# Altium footprint library 1N5819HW7.PcbLib: 3 footprints
Each footprint in its own frame and in the unit in brackets; x right, y up, seen from the top. Pads: shape width x height; smd on the part's side, far side on the other; paste and mask are expansions set on the pad; w line width, h text height; cw(c..) or ccw(c..) is an arc to the next point about the centre after c.
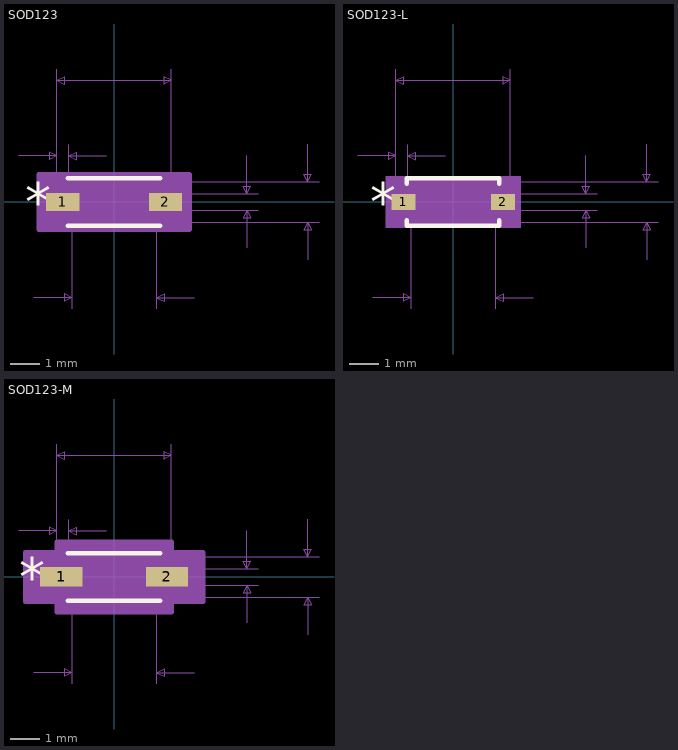
[diagram p0: the footprints below, top view; thin cyan lines are the x and y axes]

## SOD123 [mm]
pads (2):
  rect 1.111x0.601 smd: 1(-1.725,0) 2(1.725,0)
Top Overlay:
  lines w0.152: -1.552,-0.802 1.552,-0.802 ; -1.552,0.802 1.552,0.802
  text "*" at -2.979,-0.635 h1.27
Mechanical 5:
  region: 2.471,-0.865 -2.471,-0.865 -2.471,0.865 2.471,0.865
Mechanical 7:
  lines w0.025: -3.195,1.545 -1.925,1.545 ; -2.695,-3.215 -1.425,-3.215 ; -1.925,1.926 -1.925,0 -1.925,4.466 ; -1.525,0 -1.525,1.926 ; -1.425,-3.596 -1.425,0 ; -0.255,1.545 -1.525,1.545 ; 0,-0.675 6.886,-0.675 ; 0,0.675 6.886,0.675 ; 1.425,-3.596 1.425,0 ; 1.925,-0.275 4.846,-0.275 ; 1.925,0 1.925,4.466 ; 1.925,0.275 4.846,0.275 ; 2.695,-3.215 1.425,-3.215 ; 4.465,-1.545 4.465,-0.275 ; 4.465,1.545 4.465,0.275 ; 6.505,-1.945 6.505,-0.675 ; 6.505,1.945 6.505,0.675 ; -1.925,1.545 -2.179,1.672 -2.179,1.418 -1.925,1.545 ; -1.925,4.085 1.925,4.085 ; -1.925,4.085 -1.671,4.212 -1.671,3.958 -1.925,4.085 ; -1.525,1.545 -1.271,1.672 -1.271,1.418 -1.525,1.545 ; -1.425,-3.215 -1.679,-3.088 -1.679,-3.342 -1.425,-3.215 ; 1.425,-3.215 1.679,-3.088 1.679,-3.342 1.425,-3.215 ; 1.925,4.085 1.671,4.212 1.671,3.958 1.925,4.085 ; 4.465,-0.275 4.338,-0.529 4.592,-0.529 4.465,-0.275 ; 4.465,0.275 4.338,0.529 4.592,0.529 4.465,0.275 ; 6.505,-0.675 6.378,-0.929 6.632,-0.929 6.505,-0.675 ; 6.505,0.675 6.378,0.929 6.632,0.929 6.505,0.675
  text "Default Padstyle: RX43p75Y23p65D0T" at -10.795,-8.555 h1.27
  text "Alt 1 Padstyle: OX60Y90D30P" at -8.572,-10.46 h1.27
  text "Alt 2 Padstyle: OX90Y60D30P" at -8.572,-12.365 h1.27
  text "0.152in/3.85mm" at -2.222,4.593 h0.64
  text "0.016in/0.4mm" at -3.789,2.053 h0.64
  text "0.022in/0.55mm" at 4.973,-0.318 h0.64
  text "0.053in/1.35mm" at 7.013,-0.318 h0.64
  text "0.112in/2.85mm" at -2.222,-4.358 h0.64
Mechanical 13:
  lines w0.025: -1.425,-0.337 -1.087,-0.675 ; -1.425,0.337 -1.087,0.675 ; -1.925,-0.275 -1.925,0.275 -1.425,0.275 -1.425,-0.275 -1.925,-0.275 ; -1.425,-0.675 1.425,-0.675 1.425,0.675 -1.425,0.675 -1.425,-0.675 ; 1.425,-0.275 1.425,0.275 1.925,0.275 1.925,-0.275 1.425,-0.275
  text "*" at -1.488,-0.635 h1.27
Mechanical 15:
  region: -1.679,-0.937 -2.535,-0.937 -2.535,0.937 -1.679,0.937 -1.679,0.929 1.679,0.929 1.679,0.937 2.535,0.937 2.535,-0.937 1.679,-0.937 1.679,-0.929 -1.679,-0.929
  lines w0.152: -2.535,-0.937 -2.535,0.937 -1.679,0.937 -1.679,0.929 1.679,0.929 1.679,0.937 2.535,0.937 2.535,-0.937 1.679,-0.937 1.679,-0.929 -1.679,-0.929 -1.679,-0.937 -2.535,-0.937
3D body: height 0.25, standoff 0, extent 0,0 0.254,0.254

## SOD123-L [mm]
pads (2):
  rect 0.806x0.55 smd paste+0 mask+0: 1(-1.674,0) 2(1.674,0)
Top Overlay:
  lines w0.152: -1.552,-0.608 -1.552,-0.802 1.552,-0.802 1.552,-0.608 ; -1.552,0.608 -1.552,0.802 1.552,0.802 1.552,0.608
  text "*" at -2.776,-0.635 h1.27
Mechanical 5:
  region: 2.268,-0.865 -2.268,-0.865 -2.268,0.865 2.268,0.865
Mechanical 7:
  lines w0.025: -3.195,1.545 -1.925,1.545 ; -2.695,-3.215 -1.425,-3.215 ; -1.925,1.926 -1.925,0 -1.925,4.466 ; -1.525,0 -1.525,1.926 ; -1.425,-3.596 -1.425,0 ; -0.255,1.545 -1.525,1.545 ; 0,-0.675 6.886,-0.675 ; 0,0.675 6.886,0.675 ; 1.425,-3.596 1.425,0 ; 1.925,-0.275 4.846,-0.275 ; 1.925,0 1.925,4.466 ; 1.925,0.275 4.846,0.275 ; 2.695,-3.215 1.425,-3.215 ; 4.465,-1.545 4.465,-0.275 ; 4.465,1.545 4.465,0.275 ; 6.505,-1.945 6.505,-0.675 ; 6.505,1.945 6.505,0.675 ; -1.925,1.545 -2.179,1.672 -2.179,1.418 -1.925,1.545 ; -1.925,4.085 1.925,4.085 ; -1.925,4.085 -1.671,4.212 -1.671,3.958 -1.925,4.085 ; -1.525,1.545 -1.271,1.672 -1.271,1.418 -1.525,1.545 ; -1.425,-3.215 -1.679,-3.088 -1.679,-3.342 -1.425,-3.215 ; 1.425,-3.215 1.679,-3.088 1.679,-3.342 1.425,-3.215 ; 1.925,4.085 1.671,4.212 1.671,3.958 1.925,4.085 ; 4.465,-0.275 4.338,-0.529 4.592,-0.529 4.465,-0.275 ; 4.465,0.275 4.338,0.529 4.592,0.529 4.465,0.275 ; 6.505,-0.675 6.378,-0.929 6.632,-0.929 6.505,-0.675 ; 6.505,0.675 6.378,0.929 6.632,0.929 6.505,0.675
  text "Default Padstyle: RX31p75Y21p65D0T" at -10.795,-8.53 h1.27
  text "Alt 1 Padstyle: OX60Y90D30P" at -8.572,-10.435 h1.27
  text "Alt 2 Padstyle: OX90Y60D30P" at -8.572,-12.34 h1.27
  text "0.152in/3.85mm" at -2.222,4.593 h0.64
  text "0.016in/0.4mm" at -3.789,2.053 h0.64
  text "0.022in/0.55mm" at 4.973,-0.318 h0.64
  text "0.053in/1.35mm" at 7.013,-0.318 h0.64
  text "0.112in/2.85mm" at -2.222,-4.358 h0.64
Mechanical 13:
  lines w0.025: -1.425,-0.337 -1.087,-0.675 ; -1.425,0.337 -1.087,0.675 ; -1.925,-0.275 -1.925,0.275 -1.425,0.275 -1.425,-0.275 -1.925,-0.275 ; -1.425,-0.675 1.425,-0.675 1.425,0.675 -1.425,0.675 -1.425,-0.675 ; 1.425,-0.275 1.425,0.275 1.925,0.275 1.925,-0.275 1.425,-0.275
  text "*" at -1.488,-0.635 h1.27
Mechanical 15:
  region: -1.527,-0.377 -2.179,-0.377 -2.179,0.377 -1.527,0.377 -1.527,0.777 1.527,0.777 1.527,0.377 2.179,0.377 2.179,-0.377 1.527,-0.377 1.527,-0.777 -1.527,-0.777
  lines w0.152: -2.179,-0.377 -2.179,0.377 -1.527,0.377 -1.527,0.777 1.527,0.777 1.527,0.377 2.179,0.377 2.179,-0.377 1.527,-0.377 1.527,-0.777 -1.527,-0.777 -1.527,-0.377 -2.179,-0.377
3D body: height 0.25, standoff 0, extent 0,0 0.254,0.254

## SOD123-M [mm]
pads (2):
  rect 1.416x0.652 smd paste+0 mask+0: 1(-1.776,0) 2(1.776,0)
Top Overlay:
  lines w0.152: -1.552,-0.802 1.552,-0.802 ; -1.552,0.802 1.552,0.802
  text "*" at -3.182,-0.635 h1.27
Mechanical 5:
  region: 2.674,-0.865 -2.674,-0.865 -2.674,0.865 2.674,0.865
Mechanical 7:
  lines w0.025: -3.195,1.545 -1.925,1.545 ; -2.695,-3.215 -1.425,-3.215 ; -1.925,1.926 -1.925,0 -1.925,4.466 ; -1.525,0 -1.525,1.926 ; -1.425,-3.596 -1.425,0 ; -0.255,1.545 -1.525,1.545 ; 0,-0.675 6.886,-0.675 ; 0,0.675 6.886,0.675 ; 1.425,-3.596 1.425,0 ; 1.925,-0.275 4.846,-0.275 ; 1.925,0 1.925,4.466 ; 1.925,0.275 4.846,0.275 ; 2.695,-3.215 1.425,-3.215 ; 4.465,-1.545 4.465,-0.275 ; 4.465,1.545 4.465,0.275 ; 6.505,-1.945 6.505,-0.675 ; 6.505,1.945 6.505,0.675 ; -1.925,1.545 -2.179,1.672 -2.179,1.418 -1.925,1.545 ; -1.925,4.085 1.925,4.085 ; -1.925,4.085 -1.671,4.212 -1.671,3.958 -1.925,4.085 ; -1.525,1.545 -1.271,1.672 -1.271,1.418 -1.525,1.545 ; -1.425,-3.215 -1.679,-3.088 -1.679,-3.342 -1.425,-3.215 ; 1.425,-3.215 1.679,-3.088 1.679,-3.342 1.425,-3.215 ; 1.925,4.085 1.671,4.212 1.671,3.958 1.925,4.085 ; 4.465,-0.275 4.338,-0.529 4.592,-0.529 4.465,-0.275 ; 4.465,0.275 4.338,0.529 4.592,0.529 4.465,0.275 ; 6.505,-0.675 6.378,-0.929 6.632,-0.929 6.505,-0.675 ; 6.505,0.675 6.378,0.929 6.632,0.929 6.505,0.675
  text "Default Padstyle: RX55p75Y25p65D0T" at -10.795,-8.581 h1.27
  text "Alt 1 Padstyle: OX60Y90D30P" at -8.572,-10.486 h1.27
  text "Alt 2 Padstyle: OX90Y60D30P" at -8.572,-12.391 h1.27
  text "0.152in/3.85mm" at -2.222,4.593 h0.64
  text "0.016in/0.4mm" at -3.789,2.053 h0.64
  text "0.022in/0.55mm" at 4.973,-0.318 h0.64
  text "0.053in/1.35mm" at 7.013,-0.318 h0.64
  text "0.112in/2.85mm" at -2.222,-4.358 h0.64
Mechanical 13:
  lines w0.025: -1.425,-0.337 -1.087,-0.675 ; -1.425,0.337 -1.087,0.675 ; -1.925,-0.275 -1.925,0.275 -1.425,0.275 -1.425,-0.275 -1.925,-0.275 ; -1.425,-0.675 1.425,-0.675 1.425,0.675 -1.425,0.675 -1.425,-0.675 ; 1.425,-0.275 1.425,0.275 1.925,0.275 1.925,-0.275 1.425,-0.275
  text "*" at -1.488,-0.635 h1.27
Mechanical 15:
  region: -1.933,-0.834 -2.992,-0.834 -2.992,0.834 -1.933,0.834 -1.933,1.183 1.933,1.183 1.933,0.834 2.992,0.834 2.992,-0.834 1.933,-0.834 1.933,-1.183 -1.933,-1.183
  lines w0.152: -2.992,-0.834 -2.992,0.834 -1.933,0.834 -1.933,1.183 1.933,1.183 1.933,0.834 2.992,0.834 2.992,-0.834 1.933,-0.834 1.933,-1.183 -1.933,-1.183 -1.933,-0.834 -2.992,-0.834
3D body: height 0.25, standoff 0, extent 0,0 0.254,0.254